# Altium schematic symbol library Maxim.SchLib: 5 symbols
Pins are listed as number, name and electrical type; pins without a type are passive.

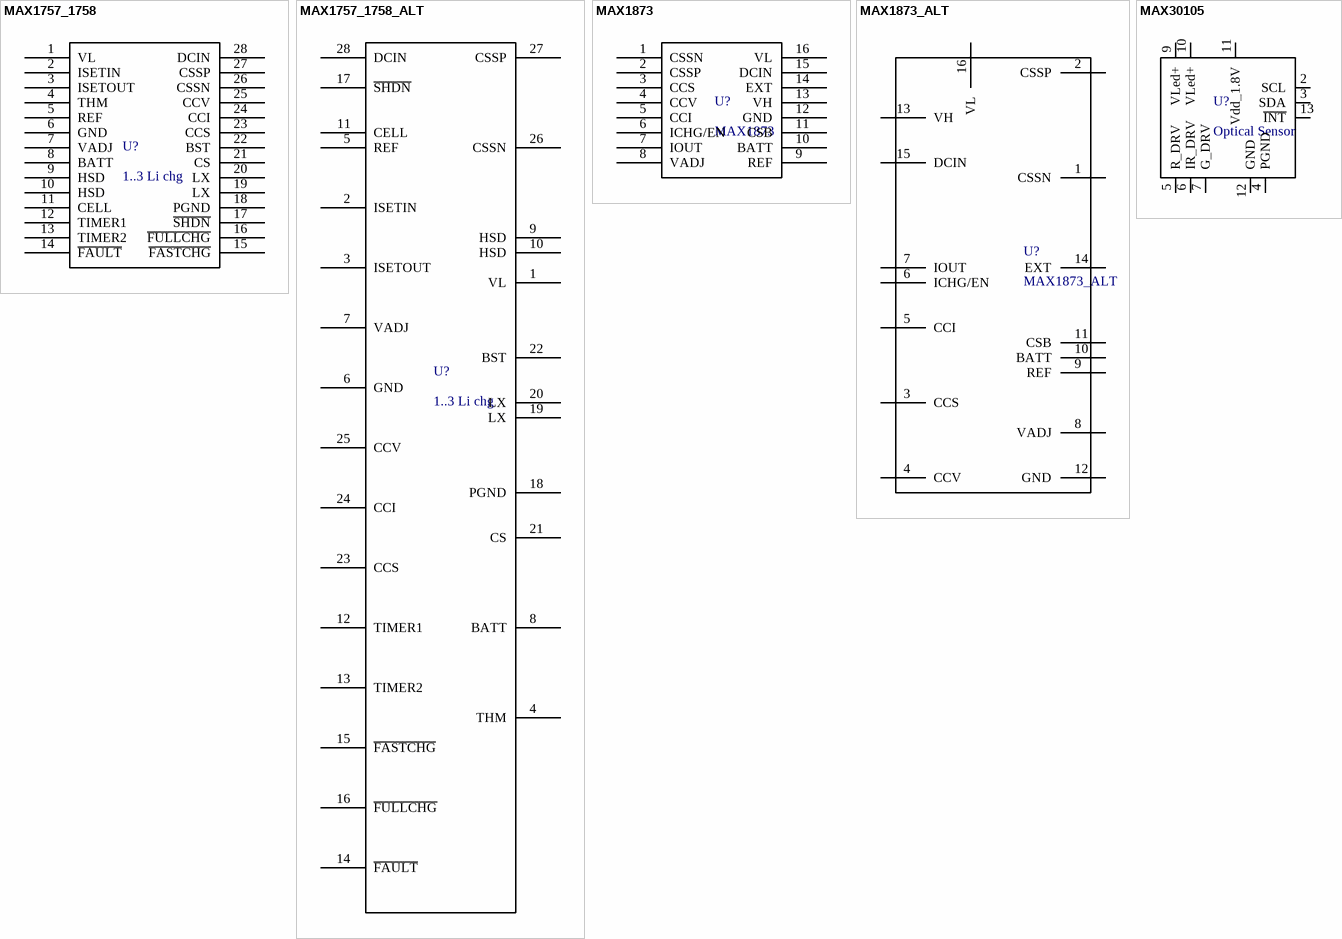
[diagram p0: symbols MAX1757_1758 to MAX30105]

## MAX1757_1758
designator U?, comment 1..3 Li chg
footprint MAX1757
pins: 1 VL, 2 ISETIN, 3 ISETOUT, 4 THM, 5 REF, 6 GND, 7 VADJ, 8 BATT, 9 HSD, 10 HSD, 11 CELL, 12 TIMER1, 13 TIMER2, 14 ~{FAULT}, 15 ~{FASTCHG}, 16 ~{FULLCHG}, 17 ~{SHDN}, 18 PGND, 19 LX, 20 LX, 21 CS, 22 BST, 23 CCS, 24 CCI, 25 CCV, 26 CSSN, 27 CSSP, 28 DCIN

## MAX1757_1758_ALT
designator U?, comment 1..3 Li chg
footprint MAX1757
pins: 1 VL, 2 ISETIN, 3 ISETOUT, 4 THM, 5 REF, 6 GND, 7 VADJ, 8 BATT, 9 HSD, 10 HSD, 11 CELL, 12 TIMER1, 13 TIMER2, 14 ~{FAULT}, 15 ~{FASTCHG}, 16 ~{FULLCHG}, 17 ~{SHDN}, 18 PGND, 19 LX, 20 LX, 21 CS, 22 BST, 23 CCS, 24 CCI, 25 CCV, 26 CSSN, 27 CSSP, 28 DCIN

## MAX1873
designator U?
footprint MAX1873
pins: 1 CSSN, 2 CSSP, 3 CCS, 4 CCV, 5 CCI, 6 ICHG/EN, 7 IOUT, 8 VADJ, 9 REF, 10 BATT, 11 CSB, 12 GND, 13 VH, 14 EXT, 15 DCIN, 16 VL

## MAX1873_ALT
designator U?
footprint MAX1873
pins: 1 CSSN, 2 CSSP, 3 CCS, 4 CCV, 5 CCI, 6 ICHG/EN, 7 IOUT, 8 VADJ, 9 REF, 10 BATT, 11 CSB, 12 GND, 13 VH, 14 EXT, 15 DCIN, 16 VL

## MAX30105
designator U?, comment Optical Sensor
Optical Sensor for Smoke Detection
footprint MAX30105 (Optical Sensor for Smoke Detection)
pins: 1 NC hidden, 2 SCL, 3 SDA, 4 PGND, 5 R_DRV, 6 IR_DRV, 7 G_DRV, 8 NC hidden, 9 VLed+, 10 VLed+, 11 Vdd_1.8V, 12 GND, 13 ~{INT}, 14 NC hidden